# Altium integrated library Wurth_Elektronik_Passive_rev16a.IntLib: 1143 symbols (part 13 of 28)
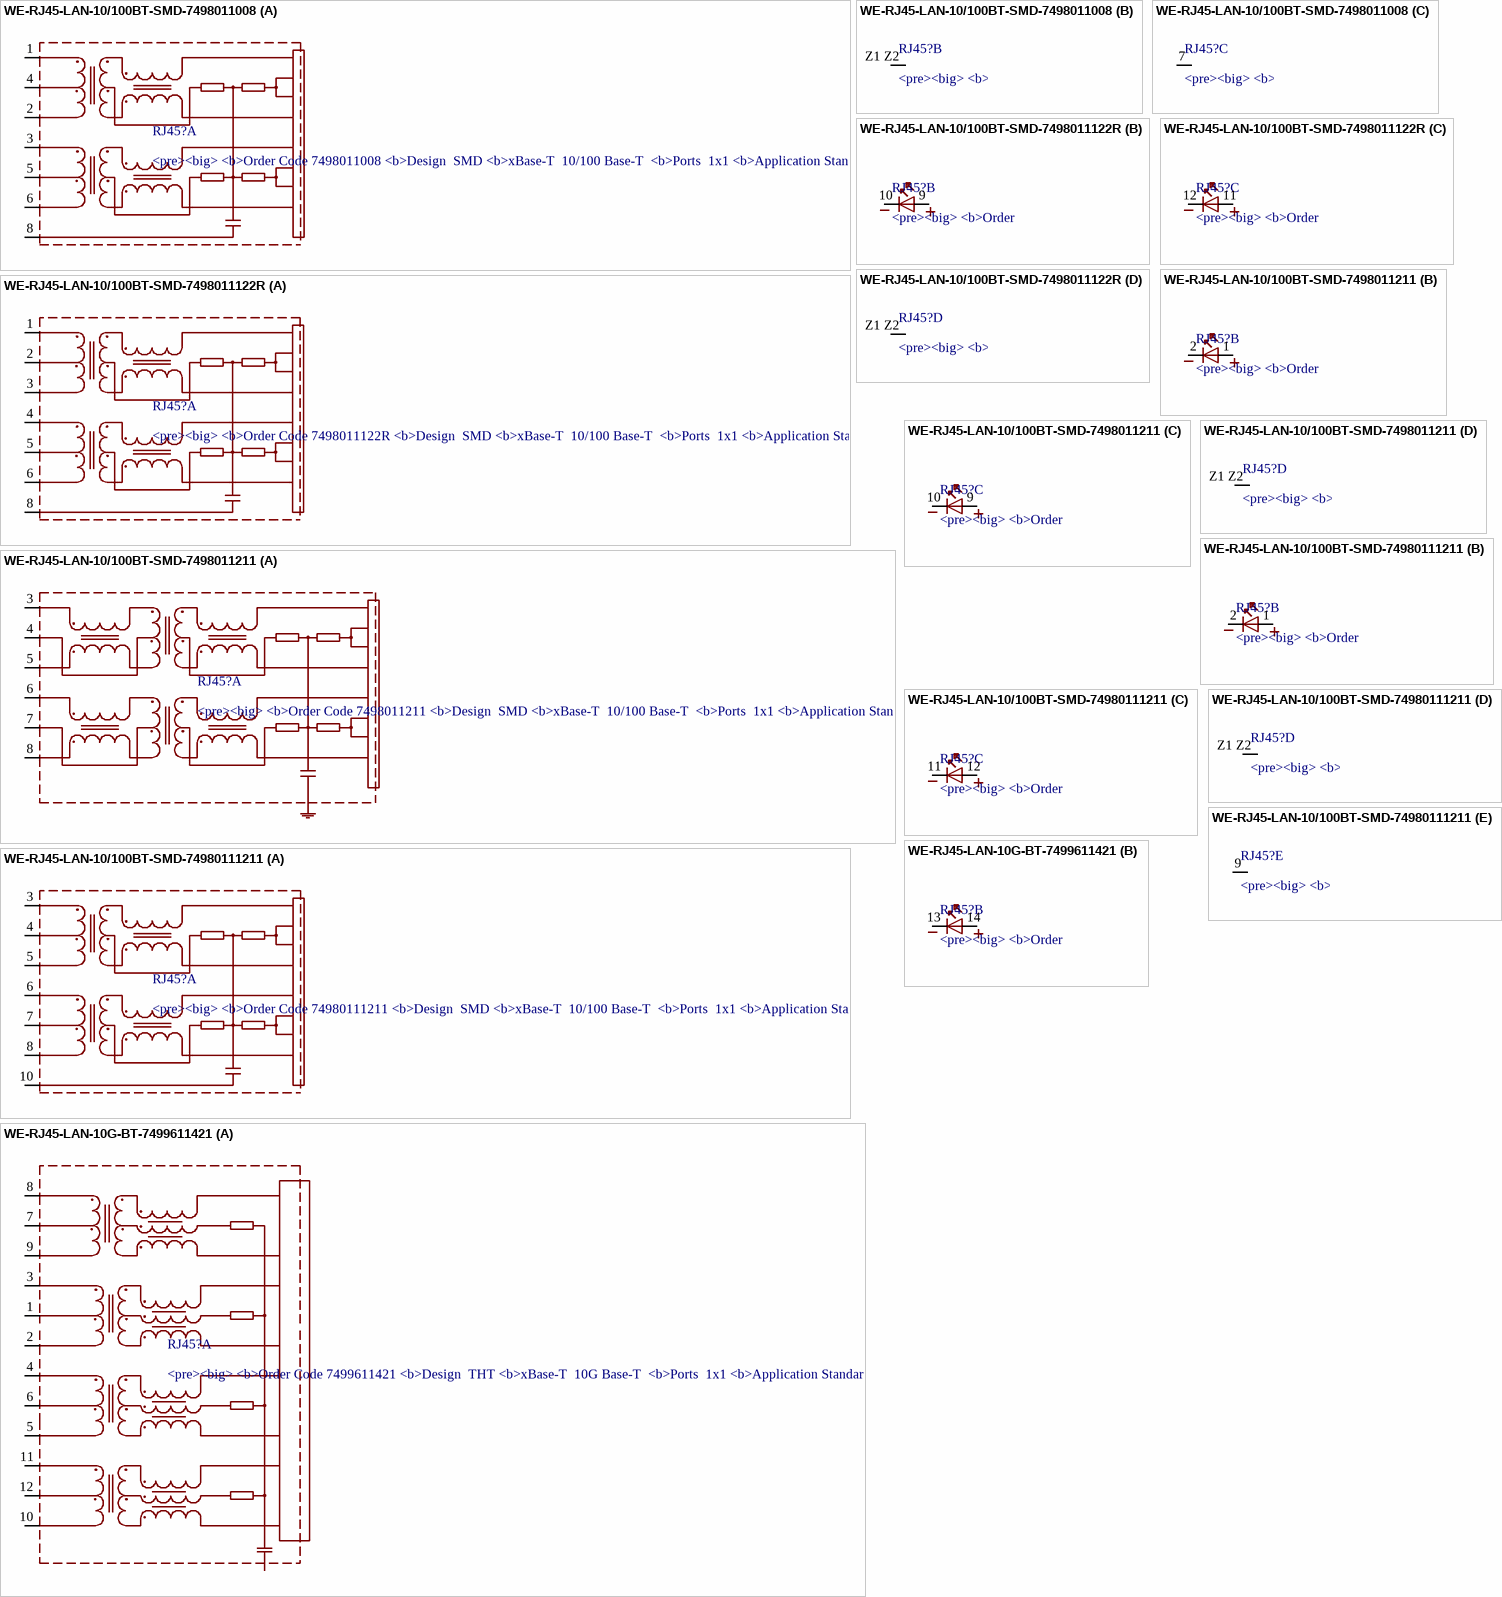
[diagram p70: symbols WE-RJ45-LAN-10/100BT-SMD-7498011008 to WE-RJ45-LAN-10G-BT-7499611421]

## WE-RJ45-LAN-10/100BT-SMD-7498011008
designator RJ45?, comment <pre><big> / <b>Order Code	7498011008 / <b>Design		SMD / <b>xBase-T		10/100 Base-T / <b>Ports		1x1 / <b>Application	Standard / <b>Tab Position	Down / <b>LED (Left-Right)	None / <b>EMI Fingers	Yes / </b><br><a href="<br><a href="http://katalog.we-online.de/media/images/eisos/UtLAN_RJ45_pf2.jpg" title="Enlarge picture"> / <img src="http://katalog.we-online.de/media/images/eisos/UtLAN_RJ45_pf2.jpg" width="320"></a><p> / Details see: <a href="http://katalog.we-online.de/en/pbs/WE-LAN_RJ45/7498011008?">http://katalog.we-online.de/en/pbs/WE-LAN_RJ45/7498011008?</a><p> / </b> / </b>Updated  by  Dan Xu 2014-07-10<br> / </b>2014 (C) Würth Elektronik
MANUFACTURER: Würth Elektronik eiSos GmbH; CREATED-BY: Christin Zierenner; COMPANY-URL: http://www.we-online.de; CREATED-DATE: AUG 2012; DATASHEET-URL: http://katalog.we-online.de/kataloge/eisos/media/pdf/7498011008.pdf
footprint 749801100X
part A pins: 1 RD+, 2 RD-, 3 TD+, 4 RCT, 5 TCT, 6 TD-, 8 SH (power)
part B pins: Z1 Z2 P$1 (power)
part C pins: 7 NC

## WE-RJ45-LAN-10/100BT-SMD-7498011122R
designator RJ45?, comment <pre><big> / <b>Order Code	7498011122R / <b>Design		SMD / <b>xBase-T		10/100 Base-T / <b>Ports		1x1 / <b>Application	Standard / <b>Tab Position	Up / <b>LED (Left-Right)	YELLOW-GREEN / <b>EMI Fingers	Yes / </b><br><a href="<br><a href="http://katalog.we-online.de/media/images/eisos/UtLAN_RJ45_pf2.jpg" title="Enlarge picture"> / <img src="http://katalog.we-online.de/media/images/eisos/UtLAN_RJ45_pf2.jpg" width="320"></a><p> / Details see: <a href="http://katalog.we-online.de/en/pbs/WE-LAN_RJ45/7498011122R?">http://katalog.we-online.de/en/pbs/WE-LAN_RJ45/7498011122R?</a><p> / </b> / </b>Updated  by  Dan Xu 2014-07-10<br> / </b>2014 (C) Würth Elektronik
MANUFACTURER: Würth Elektronik eiSos GmbH; CREATED-BY: Christin Zierenner; COMPANY-URL: http://www.we-online.de; CREATED-DATE: AUG 2012; DATASHEET-URL: http://katalog.we-online.de/kataloge/eisos/media/pdf/7498011122R.pdf
footprint 7498011122R
part A pins: 1 TD+, 2 TCT, 3 TD-, 4 RD+, 5 RCT, 6 RD-, 8 SH (power)
part B pins: 9 A, 10 K
part C pins: 11 A, 12 K
part D pins: Z1 Z2 P$1 (power)

## WE-RJ45-LAN-10/100BT-SMD-7498011211
designator RJ45?, comment <pre><big> / <b>Order Code	7498011211 / <b>Design		SMD / <b>xBase-T		10/100 Base-T / <b>Ports		1x1 / <b>Application	Standard / <b>Tab Position	DOWN / <b>LED (Left-Right)	GREEN-YELLOW / <b>EMI Fingers	Yes / </b><br><a href="<br><a href="http://katalog.we-online.de/media/images/eisos/UtLAN_RJ45_pf2.jpg" title="Enlarge picture"> / <img src="http://katalog.we-online.de/media/images/eisos/UtLAN_RJ45_pf2.jpg" width="320"></a><p> / Details see: <a href="http://katalog.we-online.de/en/pbs/WE-LAN_RJ45/7498011211?">http://katalog.we-online.de/en/pbs/WE-LAN_RJ45/7498011211?</a><p> / </b> / </b>Updated  by  Dan Xu 2014-07-10<br> / </b>2014 (C) Würth Elektronik
MANUFACTURER: Würth Elektronik eiSos GmbH; CREATED-BY: Christin Zierenner; COMPANY-URL: http://www.we-online.de; CREATED-DATE: AUG 2012; DATASHEET-URL: http://katalog.we-online.de/kataloge/eisos/media/pdf/7498011211.pdf
footprint 7498011211
part A pins: 3 TD+, 4 TCT, 5 TD-, 6 RD+, 7 RCT, 8 RD-
part B pins: 1 A, 2 K
part C pins: 9 A, 10 K
part D pins: Z1 Z2 P$1 (power)

## WE-RJ45-LAN-10/100BT-SMD-74980111211
designator RJ45?, comment <pre><big> / <b>Order Code	74980111211 / <b>Design		SMD / <b>xBase-T		10/100 Base-T / <b>Ports		1x1 / <b>Application	Standard / <b>Tab Position	Up / <b>LED (Left-Right)	YELLOW-GREEN / <b>EMI Fingers	Yes / </b><br><a href="<br><a href="http://katalog.we-online.de/media/images/eisos/UtLAN_RJ45_pf2.jpg" title="Enlarge picture"> / <img src="http://katalog.we-online.de/media/images/eisos/UtLAN_RJ45_pf2.jpg" width="320"></a><p> / Details see: <a href="http://katalog.we-online.de/en/pbs/WE-LAN_RJ45/74980111211?">http://katalog.we-online.de/en/pbs/WE-LAN_RJ45/74980111211?</a><p> / </b> / </b>Updated  by  Dan Xu 2014-07-10<br> / </b>2014 (C) Würth Elektronik
MANUFACTURER: Würth Elektronik eiSos GmbH; CREATED-BY: Christin Zierenner; COMPANY-URL: http://www.we-online.de; CREATED-DATE: AUG 2012; DATASHEET-URL: http://katalog.we-online.de/kataloge/eisos/media/pdf/74980111211.pdf
footprint 74980111211
part A pins: 3 RD+, 4 RCT, 5 RD-, 6 TD+, 7 TCT, 8 TD-, 10 SH (power)
part B pins: 1 A, 2 K
part C pins: 11 K, 12 A
part D pins: Z1 Z2 P$1 (power)
part E pins: 9 NC

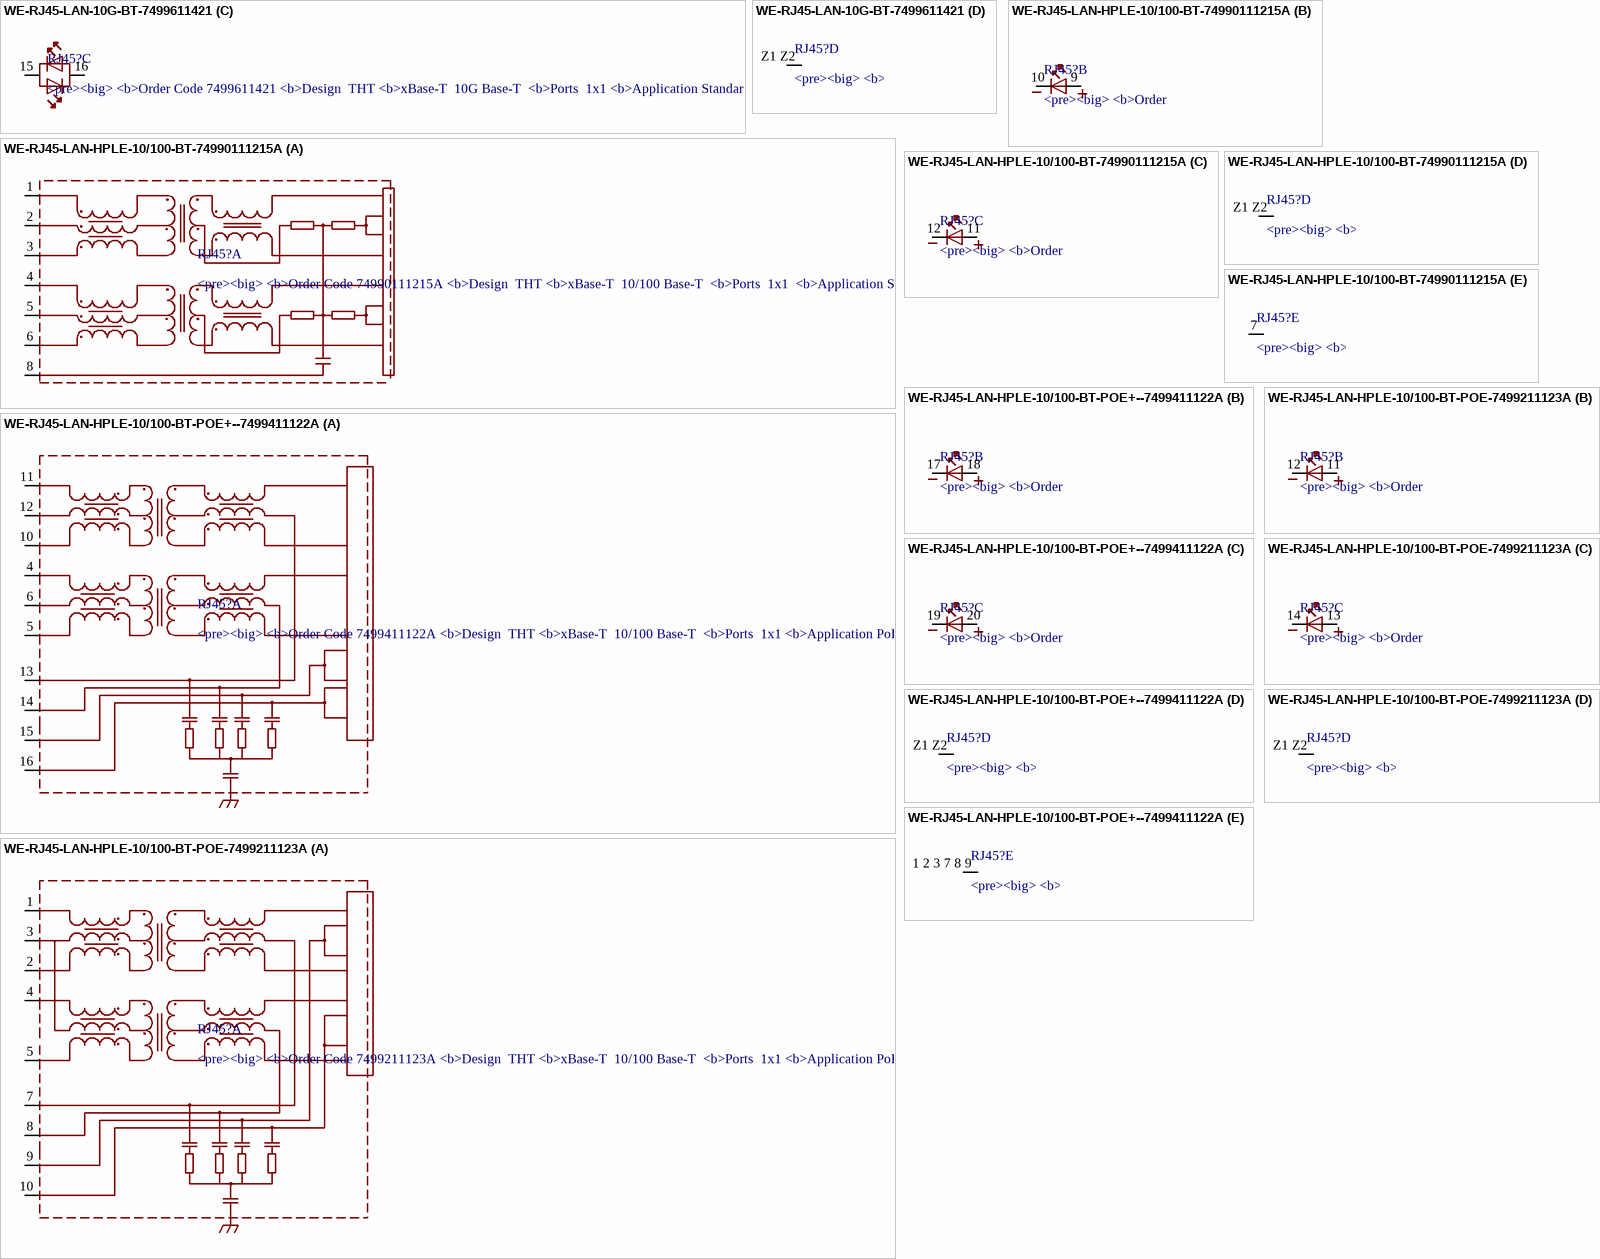
[diagram p40: symbols WE-RJ45-LAN-10G-BT-7499611421 to WE-RJ45-LAN-HPLE-10/100-BT-POE-7499211123A]

## WE-RJ45-LAN-10G-BT-7499611421
designator RJ45?, comment <pre><big> / <b>Order Code	7499611421 / <b>Design		THT / <b>xBase-T		10G Base-T / <b>Ports		1x1 / <b>Application	Standard / <b>Tab Position	UP / <b>LED (Left-Right)	GREEN/YELLOW-GREEN / <b>EMI Fingers	Yes / </b><br><a href="<br><a href="http://katalog.we-online.de/media/images/eisos/UtLAN_RJ45_pf2.jpg" title="Enlarge picture"> / <img src="http://katalog.we-online.de/media/images/eisos/UtLAN_RJ45_pf2.jpg" width="320"></a><p> / Details see: <a href="http://katalog.we-online.de/en/pbs/WE-LAN_RJ45/7499611421?">http://katalog.we-online.de/en/pbs/WE-LAN_RJ45/7499611421?</a><p> / </b> / </b>Updated  by  Dan Xu 2014-07-10<br> / </b>2014 (C) Würth Elektronik
MANUFACTURER: Würth Elektronik eiSos GmbH; CREATED-BY: Christin Zierenner; COMPANY-URL: http://www.we-online.de; CREATED-DATE: AUG 2012; DATASHEET-URL: http://katalog.we-online.de/kataloge/eisos/media/pdf/7499611421.pdf
footprint 7499611421
part A pins: 1, 2, 3, 4, 5, 6, 7, 8, 9, 10, 11, 12
part B pins: 13 K, 14 A
part C pins: 15 AK1, 16 AK2
part D pins: Z1 Z2 P$1 (power)

## WE-RJ45-LAN-HPLE-10/100-BT-74990111215A
designator RJ45?, comment <pre><big> / <b>Order Code	74990111215A / <b>Design		THT / <b>xBase-T		10/100 Base-T / <b>Ports		1x1 / <b>Application	Standard HPLE / <b>Tab Position	Down / <b>LED (Left-Right)	YELLOW-GREEN / <b>EMI Fingers	YES / </b><br><a href="<br><a href="http://katalog.we-online.de/media/images/eisos/UtLAN_RJ45_pf2.jpg" title="Enlarge picture"> / <img src="http://katalog.we-online.de/media/images/eisos/UtLAN_RJ45_pf2.jpg" width="320"></a><p> / Details see: <a href="http://katalog.we-online.de/en/pbs/WE-LAN_RJ45/74990111215A?">http://katalog.we-online.de/en/pbs/WE-LAN_RJ45/74990111215A?</a><p> / </b> / </b>Updated  by  Dan Xu 2014-07-10<br> / </b>2014 (C) Würth Elektronik
MANUFACTURER: Würth Elektronik eiSos GmbH; CREATED-BY: Christin Zierenner; COMPANY-URL: http://www.we-online.de; CREATED-DATE: AUG 2012; DATASHEET-URL: http://katalog.we-online.de/kataloge/eisos/media/pdf/74990111215A.pdf
footprint 74990111215A
part A pins: 1 TD+, 2 TCT, 3 TD-, 4 RD+, 5 RCT, 6 RD-, 8 SH (power)
part B pins: 9 A, 10 K
part C pins: 11 A, 12 K
part D pins: Z1 Z2 P$1 (power)
part E pins: 7 NC

## WE-RJ45-LAN-HPLE-10/100-BT-POE+--7499411122A
designator RJ45?, comment <pre><big> / <b>Order Code	7499411122A / <b>Design		THT / <b>xBase-T		10/100 Base-T / <b>Ports		1x1 / <b>Application	PoE+ HPLE / <b>Tab Position	Up / <b>LED (Left-Right)	YELLOW-GREEN / <b>EMI Fingers	YES / </b><br><a href="<br><a href="http://katalog.we-online.de/media/images/eisos/UtLAN_RJ45_pf2.jpg" title="Enlarge picture"> / <img src="http://katalog.we-online.de/media/images/eisos/UtLAN_RJ45_pf2.jpg" width="320"></a><p> / Details see: <a href="http://katalog.we-online.de/en/pbs/WE-LAN_RJ45/7499411122A?">http://katalog.we-online.de/en/pbs/WE-LAN_RJ45/7499411122A?</a><p> / </b> / </b>Updated  by  Dan Xu 2014-07-10<br> / </b>2014 (C) Würth Elektronik
MANUFACTURER: Würth Elektronik eiSos GmbH; CREATED-BY: Christin Zierenner; COMPANY-URL: http://www.we-online.de; CREATED-DATE: AUG 2012; DATASHEET-URL: http://katalog.we-online.de/kataloge/eisos/media/pdf/7499411122A.pdf
footprint 7499411122A
part A pins: 4, 5, 6, 10, 11, 12, 13 VC1+ (power), 14 VC1- (power), 15 VC2+ (power), 16 VC2- (power)
part B pins: 17 K, 18 A
part C pins: 19 K, 20 A
part D pins: Z1 Z2 P$1 (power)
part E pins: 1 2 3 7 8 9 NC

## WE-RJ45-LAN-HPLE-10/100-BT-POE-7499211123A
designator RJ45?, comment <pre><big> / <b>Order Code	7499211123A / <b>Design		THT / <b>xBase-T		10/100 Base-T / <b>Ports		1x1 / <b>Application	PoE HPLE / <b>Tab Position	Down / <b>LED (Left-Right)	YELLOW-GREEN / <b>EMI Fingers	YES / </b><br><a href="<br><a href="http://katalog.we-online.de/media/images/eisos/UtLAN_RJ45_pf2.jpg" title="Enlarge picture"> / <img src="http://katalog.we-online.de/media/images/eisos/UtLAN_RJ45_pf2.jpg" width="320"></a><p> / Details see: <a href="http://katalog.we-online.de/en/pbs/WE-LAN_RJ45/7499211123A?">http://katalog.we-online.de/en/pbs/WE-LAN_RJ45/7499211123A?</a><p> / </b> / </b>Updated  by  Dan Xu 2014-07-10<br> / </b>2014 (C) Würth Elektronik
MANUFACTURER: Würth Elektronik eiSos GmbH; CREATED-BY: Christin Zierenner; COMPANY-URL: http://www.we-online.de; CREATED-DATE: AUG 2012; DATASHEET-URL: http://katalog.we-online.de/pbs/datasheet/7499211123A.pdf
footprint 7499211123A
part A pins: 1, 2, 3, 4, 5, 7 VC1+ (power), 8 VC1- (power), 9 VC2+ (power), 10 VC2- (power)
part B pins: 11 A, 12 K
part C pins: 13 A, 14 K
part D pins: Z1 Z2 P$1 (power)

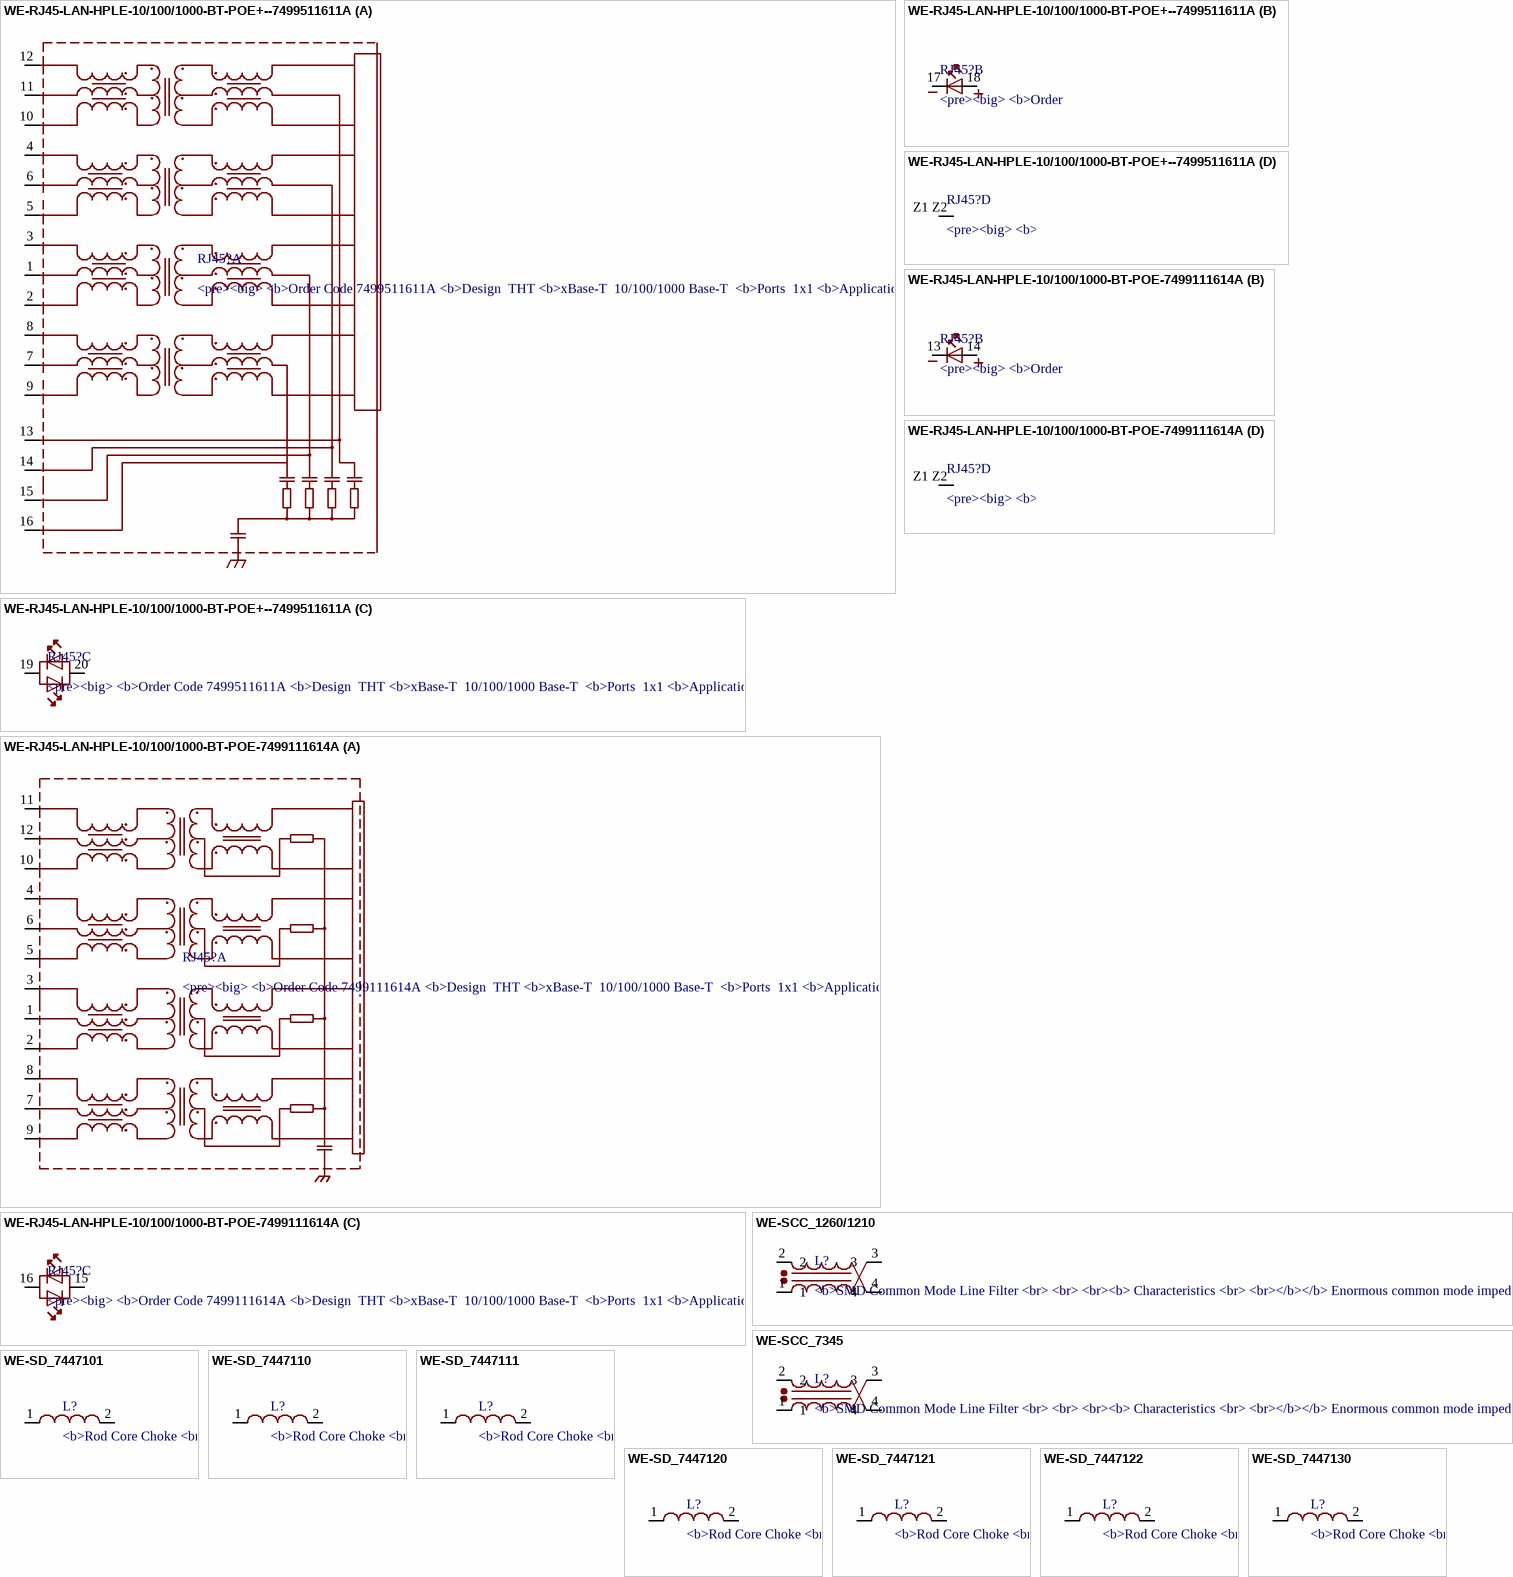
[diagram p41: symbols WE-RJ45-LAN-HPLE-10/100/1000-BT-POE+--7499511611A to WE-SD_7447130]

## WE-RJ45-LAN-HPLE-10/100/1000-BT-POE+--7499511611A
designator RJ45?, comment <pre><big> / <b>Order Code	7499511611A / <b>Design		THT / <b>xBase-T		10/100/1000 Base-T / <b>Ports		1x1 / <b>Application	PoE+ HPLE / <b>Tab Position	Up / <b>LED (Left-Right)	GREEN/ORANGE-YELLOW / <b>EMI Fingers	YES / </b><br><a href="<br><a href="http://katalog.we-online.de/media/images/eisos/UtLAN_RJ45_pf2.jpg" title="Enlarge picture"> / <img src="http://katalog.we-online.de/media/images/eisos/UtLAN_RJ45_pf2.jpg" width="320"></a><p> / Details see: <a href="http://katalog.we-online.de/en/pbs/WE-LAN_RJ45/7499511611A?">http://katalog.we-online.de/en/pbs/WE-LAN_RJ45/7499511611A?</a><p> / </b> / </b>Updated  by  Dan Xu 2014-07-10<br> / </b>2014 (C) Würth Elektronik
MANUFACTURER: Würth Elektronik eiSos GmbH; CREATED-BY: Christin Zierenner; COMPANY-URL: http://www.we-online.de; CREATED-DATE: AUG 2012; DATASHEET-URL: http://katalog.we-online.de/kataloge/eisos/media/pdf/7499511611A.pdf
footprint 7499511611A
part A pins: 1, 2, 3, 4, 5, 6, 7, 8, 9, 10, 11, 12, 13 VC1+ (power), 14 VC1- (power), 15 VC2+ (power), 16 VC2- (power)
part B pins: 17 K, 18 A
part C pins: 19 AK1, 20 AK2
part D pins: Z1 Z2 P$1 (power)

## WE-RJ45-LAN-HPLE-10/100/1000-BT-POE-7499111614A
designator RJ45?, comment <pre><big> / <b>Order Code	7499111614A / <b>Design		THT / <b>xBase-T		10/100/1000 Base-T / <b>Ports		1x1 / <b>Application	Standard HPLE / <b>Tab Position	Up / <b>LED (Left-Right)	GREEN/ORANGE-YELLOW / <b>EMI Fingers	YES / </b><br><a href="<br><a href="http://katalog.we-online.de/media/images/eisos/UtLAN_RJ45_pf2.jpg" title="Enlarge picture"> / <img src="http://katalog.we-online.de/media/images/eisos/UtLAN_RJ45_pf2.jpg" width="320"></a><p> / Details see: <a href="http://katalog.we-online.de/en/pbs/WE-LAN_RJ45/7499111614A?">http://katalog.we-online.de/en/pbs/WE-LAN_RJ45/7499111614A?</a><p> / </b> / </b>Updated  by  Dan Xu 2014-07-10<br> / </b>2014 (C) Würth Elektronik
MANUFACTURER: Würth Elektronik eiSos GmbH; CREATED-BY: Christin Zierenner; COMPANY-URL: http://www.we-online.de; CREATED-DATE: AUG 2012; DATASHEET-URL: http://katalog.we-online.de/kataloge/eisos/media/pdf/7499111614A.pdf
footprint 7499111614A
part A pins: 1, 2, 3, 4, 5, 6, 7, 8, 9, 10, 11 12, 12 11
part B pins: 13 K, 14 A
part C pins: 15 AK2, 16 AK1
part D pins: Z1 Z2 P$1 (power)

## WE-SCC_1260/1210
designator L?, comment <b>SMD Common Mode Line Filter / <br> / <br> / <br><b> Characteristics / <br> / <br></b></b> Enormous common mode impedance Z / <br> / <br> Small dimensions / <br> / <br> High current ratings / <br> / <br> / <br><b> Applications / <br> / <br></b> Attenuation of common mode noise / <br> / <br> Power supplies / <br> / <br> Data lines / <br> / <br> / <br> / </b><br><a href=<br><a href="http://katalog.we-online.de/media/images/eisos/IndSCC_pf2.jpg" title="Enlarge picture"> / <img src="http://katalog.we-online.de/media/thumbs2/eisos/thb_IndSCC_pf2.jpg" width="320"></a><p> / Details see: <a href="http://katalog.we-online.de/en/pbs/WE-SCC?">http://katalog.we-online.de/en/pbs/WE-SCC?</a><p> / </b> / </b>Updated  by  Dan Xu 2014-07-11<br> / </b>2014 (C) Wurth Elektronik
footprint WE-SCC_1260/1210
pins: 1, 2, 3, 4

## WE-SCC_7345
designator L?, comment <b>SMD Common Mode Line Filter / <br> / <br> / <br><b> Characteristics / <br> / <br></b></b> Enormous common mode impedance Z / <br> / <br> Small dimensions / <br> / <br> High current ratings / <br> / <br> / <br><b> Applications / <br> / <br></b> Attenuation of common mode noise / <br> / <br> Power supplies / <br> / <br> Data lines / <br> / <br> / <br> / </b><br><a href=<br><a href="http://katalog.we-online.de/media/images/eisos/IndSCC_pf2.jpg" title="Enlarge picture"> / <img src="http://katalog.we-online.de/media/thumbs2/eisos/thb_IndSCC_pf2.jpg" width="320"></a><p> / Details see: <a href="http://katalog.we-online.de/en/pbs/WE-SCC?">http://katalog.we-online.de/en/pbs/WE-SCC?</a><p> / </b> / </b>Updated  by  Dan Xu 2014-07-11<br> / </b>2014 (C) Wurth Elektronik
footprint WE-SCC_7345
pins: 1, 2, 3, 4

## WE-SD_7447101
designator L?, comment <b>Rod Core Choke / <br> / <br> / <br><b> Characteristics / <br> / <br></b></b> Rated current up to 15 A / <br> / <br> Inductance is independent from rated DC current / <br> / <br> High mechanical stability / <br> / <br> High saturation currents / <br> / <br> Operating temperature: –40 ºC to +150 ºC / <br> / <br> Custom designs on request / <br> / <br> / <br><b> Applications / <br> / <br></b> Switching regulators / <br> / <br> / <br> Motors / <br> / <br> Power amplifiers / <br> / <br> Power supplies / <br> / <br> Broadband filtering / <br> / <br> Typical in VHF / <br> / <br> / <br> / </b><br><a href=<br><a href="http://katalog.we-online.de/media/images/eisos/IndSD_pf2.jpg" title="Enlarge picture"> / <img src="http://katalog.we-online.de/media/images/eisos/IndSD_pf2.jpg" width="320"></a><p> / Details see: <a href="http://katalog.we-online.de/en/pbs/WE-SD?">http://katalog.we-online.de/en/pbs/WE-SD?</a><p> / </b> / </b>Updated  by  Dan Xu 2014-07-11<br> / </b>2014 (C) Wurth Elektronik
footprint WE-SD_7447101
pins: 1, 2

## WE-SD_7447110
designator L?, comment <b>Rod Core Choke / <br> / <br> / <br><b> Characteristics / <br> / <br></b></b> Rated current up to 15 A / <br> / <br> Inductance is independent from rated DC current / <br> / <br> High mechanical stability / <br> / <br> High saturation currents / <br> / <br> Operating temperature: –40 ºC to +150 ºC / <br> / <br> Custom designs on request / <br> / <br> / <br><b> Applications / <br> / <br></b> Switching regulators / <br> / <br> / <br> Motors / <br> / <br> Power amplifiers / <br> / <br> Power supplies / <br> / <br> Broadband filtering / <br> / <br> Typical in VHF / <br> / <br> / <br> / </b><br><a href=<br><a href="http://katalog.we-online.de/media/images/eisos/IndSD_pf2.jpg" title="Enlarge picture"> / <img src="http://katalog.we-online.de/media/images/eisos/IndSD_pf2.jpg" width="320"></a><p> / Details see: <a href="http://katalog.we-online.de/en/pbs/WE-SD?">http://katalog.we-online.de/en/pbs/WE-SD?</a><p> / </b> / </b>Updated  by  Dan Xu 2014-07-11<br> / </b>2014 (C) Wurth Elektronik
footprint WE-SD_7447110
pins: 1, 2

## WE-SD_7447111
designator L?, comment <b>Rod Core Choke / <br> / <br> / <br><b> Characteristics / <br> / <br></b></b> Rated current up to 15 A / <br> / <br> Inductance is independent from rated DC current / <br> / <br> High mechanical stability / <br> / <br> High saturation currents / <br> / <br> Operating temperature: –40 ºC to +150 ºC / <br> / <br> Custom designs on request / <br> / <br> / <br><b> Applications / <br> / <br></b> Switching regulators / <br> / <br> / <br> Motors / <br> / <br> Power amplifiers / <br> / <br> Power supplies / <br> / <br> Broadband filtering / <br> / <br> Typical in VHF / <br> / <br> / <br> / </b><br><a href=<br><a href="http://katalog.we-online.de/media/images/eisos/IndSD_pf2.jpg" title="Enlarge picture"> / <img src="http://katalog.we-online.de/media/images/eisos/IndSD_pf2.jpg" width="320"></a><p> / Details see: <a href="http://katalog.we-online.de/en/pbs/WE-SD?">http://katalog.we-online.de/en/pbs/WE-SD?</a><p> / </b> / </b>Updated  by  Dan Xu 2014-07-11<br> / </b>2014 (C) Wurth Elektronik
footprint WE-SD_7447111
pins: 1, 2

## WE-SD_7447120
designator L?, comment <b>Rod Core Choke / <br> / <br> / <br><b> Characteristics / <br> / <br></b></b> Rated current up to 15 A / <br> / <br> Inductance is independent from rated DC current / <br> / <br> High mechanical stability / <br> / <br> High saturation currents / <br> / <br> Operating temperature: –40 ºC to +150 ºC / <br> / <br> Custom designs on request / <br> / <br> / <br><b> Applications / <br> / <br></b> Switching regulators / <br> / <br> / <br> Motors / <br> / <br> Power amplifiers / <br> / <br> Power supplies / <br> / <br> Broadband filtering / <br> / <br> Typical in VHF / <br> / <br> / <br> / </b><br><a href=<br><a href="http://katalog.we-online.de/media/images/eisos/IndSD_pf2.jpg" title="Enlarge picture"> / <img src="http://katalog.we-online.de/media/images/eisos/IndSD_pf2.jpg" width="320"></a><p> / Details see: <a href="http://katalog.we-online.de/en/pbs/WE-SD?">http://katalog.we-online.de/en/pbs/WE-SD?</a><p> / </b> / </b>Updated  by  Dan Xu 2014-07-11<br> / </b>2014 (C) Wurth Elektronik
footprint WE-SD_7447120
pins: 1, 2

## WE-SD_7447121
designator L?, comment <b>Rod Core Choke / <br> / <br> / <br><b> Characteristics / <br> / <br></b></b> Rated current up to 15 A / <br> / <br> Inductance is independent from rated DC current / <br> / <br> High mechanical stability / <br> / <br> High saturation currents / <br> / <br> Operating temperature: –40 ºC to +150 ºC / <br> / <br> Custom designs on request / <br> / <br> / <br><b> Applications / <br> / <br></b> Switching regulators / <br> / <br> / <br> Motors / <br> / <br> Power amplifiers / <br> / <br> Power supplies / <br> / <br> Broadband filtering / <br> / <br> Typical in VHF / <br> / <br> / <br> / </b><br><a href=<br><a href="http://katalog.we-online.de/media/images/eisos/IndSD_pf2.jpg" title="Enlarge picture"> / <img src="http://katalog.we-online.de/media/images/eisos/IndSD_pf2.jpg" width="320"></a><p> / Details see: <a href="http://katalog.we-online.de/en/pbs/WE-SD?">http://katalog.we-online.de/en/pbs/WE-SD?</a><p> / </b> / </b>Updated  by  Dan Xu 2014-07-11<br> / </b>2014 (C) Wurth Elektronik
footprint WE-SD_7447121
pins: 1, 2

## WE-SD_7447122
designator L?, comment <b>Rod Core Choke / <br> / <br> / <br><b> Characteristics / <br> / <br></b></b> Rated current up to 15 A / <br> / <br> Inductance is independent from rated DC current / <br> / <br> High mechanical stability / <br> / <br> High saturation currents / <br> / <br> Operating temperature: –40 ºC to +150 ºC / <br> / <br> Custom designs on request / <br> / <br> / <br><b> Applications / <br> / <br></b> Switching regulators / <br> / <br> / <br> Motors / <br> / <br> Power amplifiers / <br> / <br> Power supplies / <br> / <br> Broadband filtering / <br> / <br> Typical in VHF / <br> / <br> / <br> / </b><br><a href=<br><a href="http://katalog.we-online.de/media/images/eisos/IndSD_pf2.jpg" title="Enlarge picture"> / <img src="http://katalog.we-online.de/media/images/eisos/IndSD_pf2.jpg" width="320"></a><p> / Details see: <a href="http://katalog.we-online.de/en/pbs/WE-SD?">http://katalog.we-online.de/en/pbs/WE-SD?</a><p> / </b> / </b>Updated  by  Dan Xu 2014-07-11<br> / </b>2014 (C) Wurth Elektronik
footprint WE-SD_7447122
pins: 1, 2

## WE-SD_7447130
designator L?, comment <b>Rod Core Choke / <br> / <br> / <br><b> Characteristics / <br> / <br></b></b> Rated current up to 15 A / <br> / <br> Inductance is independent from rated DC current / <br> / <br> High mechanical stability / <br> / <br> High saturation currents / <br> / <br> Operating temperature: –40 ºC to +150 ºC / <br> / <br> Custom designs on request / <br> / <br> / <br><b> Applications / <br> / <br></b> Switching regulators / <br> / <br> / <br> Motors / <br> / <br> Power amplifiers / <br> / <br> Power supplies / <br> / <br> Broadband filtering / <br> / <br> Typical in VHF / <br> / <br> / <br> / </b><br><a href=<br><a href="http://katalog.we-online.de/media/images/eisos/IndSD_pf2.jpg" title="Enlarge picture"> / <img src="http://katalog.we-online.de/media/images/eisos/IndSD_pf2.jpg" width="320"></a><p> / Details see: <a href="http://katalog.we-online.de/en/pbs/WE-SD?">http://katalog.we-online.de/en/pbs/WE-SD?</a><p> / </b> / </b>Updated  by  Dan Xu 2014-07-11<br> / </b>2014 (C) Wurth Elektronik
footprint WE-SD_7447130
pins: 1, 2

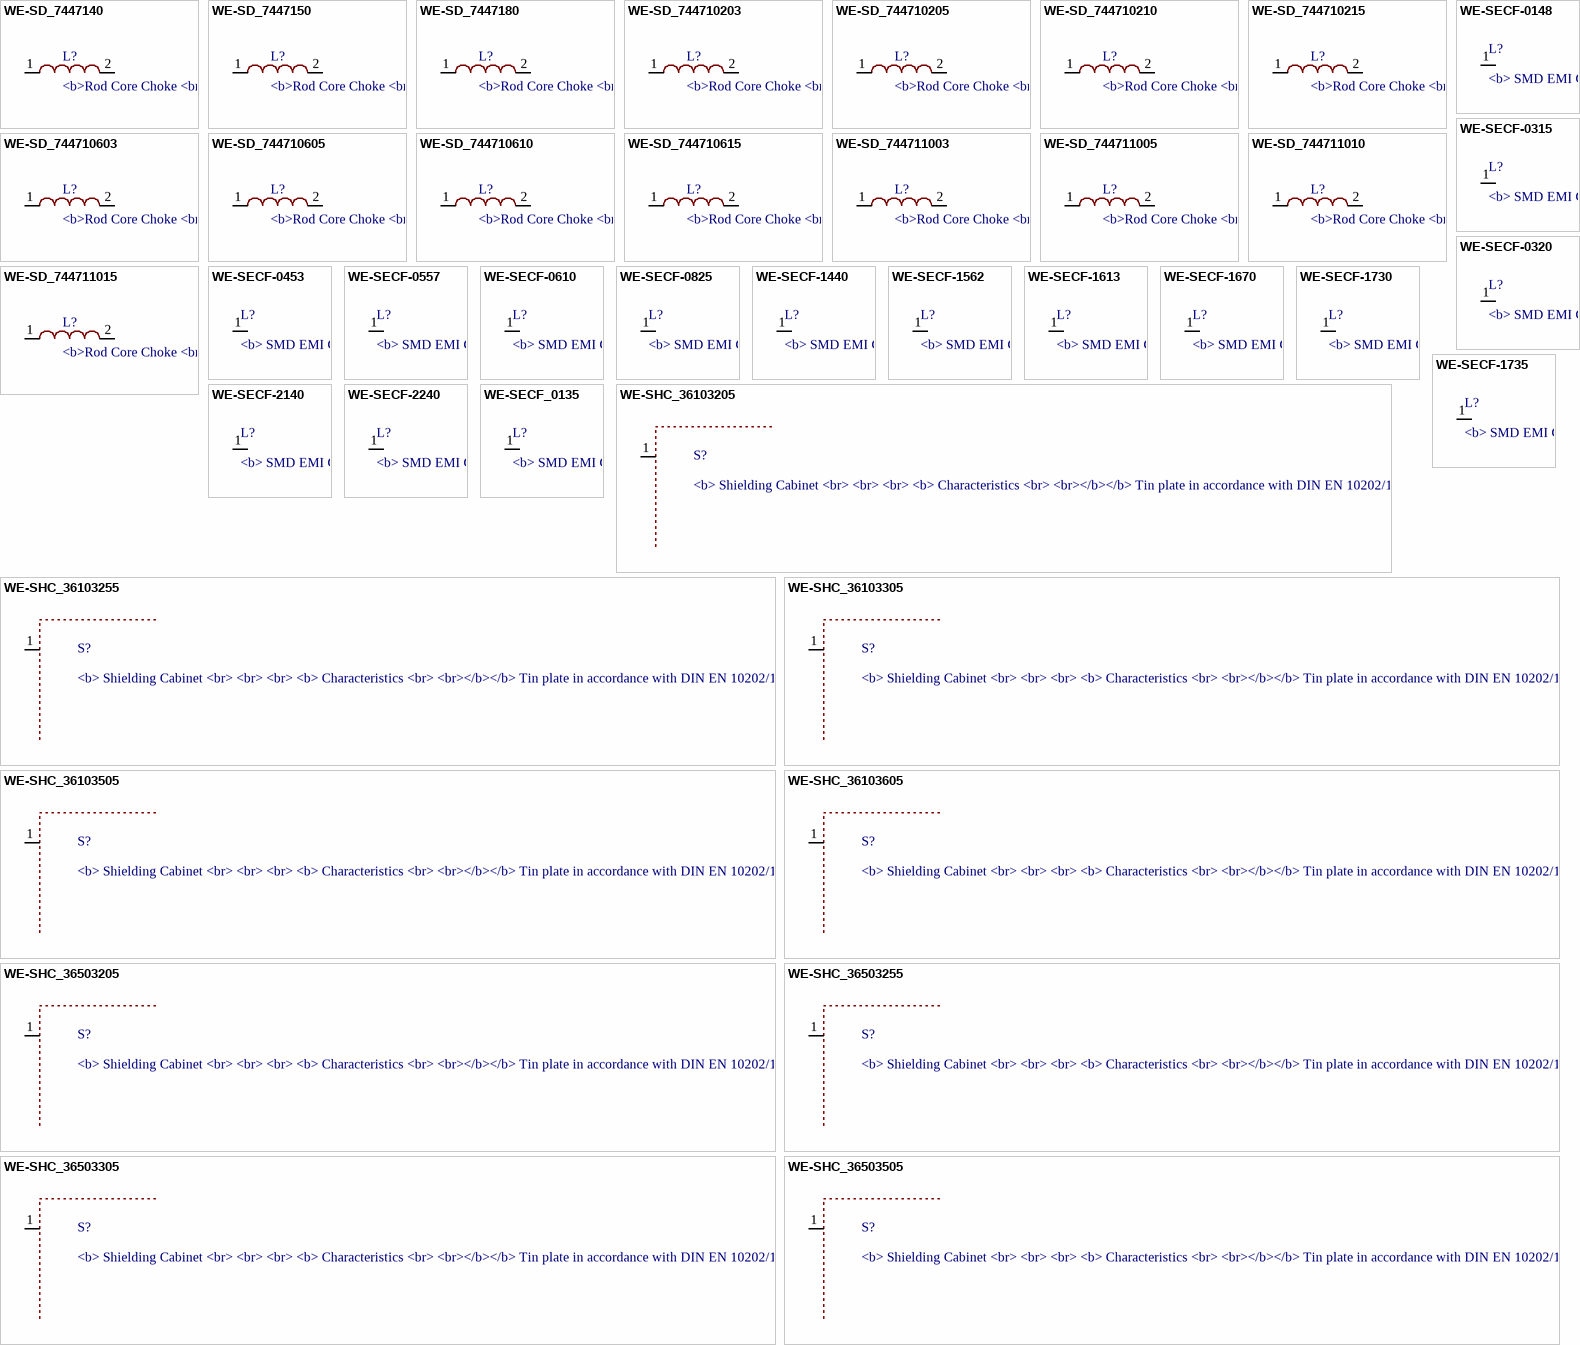
[diagram p42: symbols WE-SD_7447140 to WE-SHC_36503505]

## WE-SD_7447140
designator L?, comment <b>Rod Core Choke / <br> / <br> / <br><b> Characteristics / <br> / <br></b></b> Rated current up to 15 A / <br> / <br> Inductance is independent from rated DC current / <br> / <br> High mechanical stability / <br> / <br> High saturation currents / <br> / <br> Operating temperature: –40 ºC to +150 ºC / <br> / <br> Custom designs on request / <br> / <br> / <br><b> Applications / <br> / <br></b> Switching regulators / <br> / <br> / <br> Motors / <br> / <br> Power amplifiers / <br> / <br> Power supplies / <br> / <br> Broadband filtering / <br> / <br> Typical in VHF / <br> / <br> / <br> / </b><br><a href=<br><a href="http://katalog.we-online.de/media/images/eisos/IndSD_pf2.jpg" title="Enlarge picture"> / <img src="http://katalog.we-online.de/media/images/eisos/IndSD_pf2.jpg" width="320"></a><p> / Details see: <a href="http://katalog.we-online.de/en/pbs/WE-SD?">http://katalog.we-online.de/en/pbs/WE-SD?</a><p> / </b> / </b>Updated  by  Dan Xu 2014-07-11<br> / </b>2014 (C) Wurth Elektronik
footprint WE-SD_7447140
pins: 1, 2

## WE-SD_7447150
designator L?, comment <b>Rod Core Choke / <br> / <br> / <br><b> Characteristics / <br> / <br></b></b> Rated current up to 15 A / <br> / <br> Inductance is independent from rated DC current / <br> / <br> High mechanical stability / <br> / <br> High saturation currents / <br> / <br> Operating temperature: –40 ºC to +150 ºC / <br> / <br> Custom designs on request / <br> / <br> / <br><b> Applications / <br> / <br></b> Switching regulators / <br> / <br> / <br> Motors / <br> / <br> Power amplifiers / <br> / <br> Power supplies / <br> / <br> Broadband filtering / <br> / <br> Typical in VHF / <br> / <br> / <br> / </b><br><a href=<br><a href="http://katalog.we-online.de/media/images/eisos/IndSD_pf2.jpg" title="Enlarge picture"> / <img src="http://katalog.we-online.de/media/images/eisos/IndSD_pf2.jpg" width="320"></a><p> / Details see: <a href="http://katalog.we-online.de/en/pbs/WE-SD?">http://katalog.we-online.de/en/pbs/WE-SD?</a><p> / </b> / </b>Updated  by  Dan Xu 2014-07-11<br> / </b>2014 (C) Wurth Elektronik
footprint WE-SD_7447150
pins: 1, 2

## WE-SD_7447180
designator L?, comment <b>Rod Core Choke / <br> / <br> / <br><b> Characteristics / <br> / <br></b></b> Rated current up to 15 A / <br> / <br> Inductance is independent from rated DC current / <br> / <br> High mechanical stability / <br> / <br> High saturation currents / <br> / <br> Operating temperature: –40 ºC to +150 ºC / <br> / <br> Custom designs on request / <br> / <br> / <br><b> Applications / <br> / <br></b> Switching regulators / <br> / <br> / <br> Motors / <br> / <br> Power amplifiers / <br> / <br> Power supplies / <br> / <br> Broadband filtering / <br> / <br> Typical in VHF / <br> / <br> / <br> / </b><br><a href=<br><a href="http://katalog.we-online.de/media/images/eisos/IndSD_pf2.jpg" title="Enlarge picture"> / <img src="http://katalog.we-online.de/media/images/eisos/IndSD_pf2.jpg" width="320"></a><p> / Details see: <a href="http://katalog.we-online.de/en/pbs/WE-SD?">http://katalog.we-online.de/en/pbs/WE-SD?</a><p> / </b> / </b>Updated  by  Dan Xu 2014-07-11<br> / </b>2014 (C) Wurth Elektronik
footprint WE-SD_7447180
pins: 1, 2

## WE-SD_744710203
designator L?, comment <b>Rod Core Choke / <br> / <br> / <br><b> Characteristics / <br> / <br></b></b> Rated current up to 15 A / <br> / <br> Inductance is independent from rated DC current / <br> / <br> High mechanical stability / <br> / <br> High saturation currents / <br> / <br> Operating temperature: –40 ºC to +150 ºC / <br> / <br> Custom designs on request / <br> / <br> / <br><b> Applications / <br> / <br></b> Switching regulators / <br> / <br> / <br> Motors / <br> / <br> Power amplifiers / <br> / <br> Power supplies / <br> / <br> Broadband filtering / <br> / <br> Typical in VHF / <br> / <br> / <br> / </b><br><a href=<br><a href="http://katalog.we-online.de/media/images/eisos/IndSD_pf2.jpg" title="Enlarge picture"> / <img src="http://katalog.we-online.de/media/images/eisos/IndSD_pf2.jpg" width="320"></a><p> / Details see: <a href="http://katalog.we-online.de/en/pbs/WE-SD?">http://katalog.we-online.de/en/pbs/WE-SD?</a><p> / </b> / </b>Updated  by  Dan Xu 2014-07-11<br> / </b>2014 (C) Wurth Elektronik
footprint WE-SD_744710203
pins: 1, 2

## WE-SD_744710205
designator L?, comment <b>Rod Core Choke / <br> / <br> / <br><b> Characteristics / <br> / <br></b></b> Rated current up to 15 A / <br> / <br> Inductance is independent from rated DC current / <br> / <br> High mechanical stability / <br> / <br> High saturation currents / <br> / <br> Operating temperature: –40 ºC to +150 ºC / <br> / <br> Custom designs on request / <br> / <br> / <br><b> Applications / <br> / <br></b> Switching regulators / <br> / <br> / <br> Motors / <br> / <br> Power amplifiers / <br> / <br> Power supplies / <br> / <br> Broadband filtering / <br> / <br> Typical in VHF / <br> / <br> / <br> / </b><br><a href=<br><a href="http://katalog.we-online.de/media/images/eisos/IndSD_pf2.jpg" title="Enlarge picture"> / <img src="http://katalog.we-online.de/media/images/eisos/IndSD_pf2.jpg" width="320"></a><p> / Details see: <a href="http://katalog.we-online.de/en/pbs/WE-SD?">http://katalog.we-online.de/en/pbs/WE-SD?</a><p> / </b> / </b>Updated  by  Dan Xu 2014-07-11<br> / </b>2014 (C) Wurth Elektronik
footprint WE-SD_744710205
pins: 1, 2

## WE-SD_744710210
designator L?, comment <b>Rod Core Choke / <br> / <br> / <br><b> Characteristics / <br> / <br></b></b> Rated current up to 15 A / <br> / <br> Inductance is independent from rated DC current / <br> / <br> High mechanical stability / <br> / <br> High saturation currents / <br> / <br> Operating temperature: –40 ºC to +150 ºC / <br> / <br> Custom designs on request / <br> / <br> / <br><b> Applications / <br> / <br></b> Switching regulators / <br> / <br> / <br> Motors / <br> / <br> Power amplifiers / <br> / <br> Power supplies / <br> / <br> Broadband filtering / <br> / <br> Typical in VHF / <br> / <br> / <br> / </b><br><a href=<br><a href="http://katalog.we-online.de/media/images/eisos/IndSD_pf2.jpg" title="Enlarge picture"> / <img src="http://katalog.we-online.de/media/images/eisos/IndSD_pf2.jpg" width="320"></a><p> / Details see: <a href="http://katalog.we-online.de/en/pbs/WE-SD?">http://katalog.we-online.de/en/pbs/WE-SD?</a><p> / </b> / </b>Updated  by  Dan Xu 2014-07-11<br> / </b>2014 (C) Wurth Elektronik
footprint WE-SD_744710210
pins: 1, 2

## WE-SD_744710215
designator L?, comment <b>Rod Core Choke / <br> / <br> / <br><b> Characteristics / <br> / <br></b></b> Rated current up to 15 A / <br> / <br> Inductance is independent from rated DC current / <br> / <br> High mechanical stability / <br> / <br> High saturation currents / <br> / <br> Operating temperature: –40 ºC to +150 ºC / <br> / <br> Custom designs on request / <br> / <br> / <br><b> Applications / <br> / <br></b> Switching regulators / <br> / <br> / <br> Motors / <br> / <br> Power amplifiers / <br> / <br> Power supplies / <br> / <br> Broadband filtering / <br> / <br> Typical in VHF / <br> / <br> / <br> / </b><br><a href=<br><a href="http://katalog.we-online.de/media/images/eisos/IndSD_pf2.jpg" title="Enlarge picture"> / <img src="http://katalog.we-online.de/media/images/eisos/IndSD_pf2.jpg" width="320"></a><p> / Details see: <a href="http://katalog.we-online.de/en/pbs/WE-SD?">http://katalog.we-online.de/en/pbs/WE-SD?</a><p> / </b> / </b>Updated  by  Dan Xu 2014-07-11<br> / </b>2014 (C) Wurth Elektronik
footprint WE-SD_744710215
pins: 1, 2

## WE-SD_744710603
designator L?, comment <b>Rod Core Choke / <br> / <br> / <br><b> Characteristics / <br> / <br></b></b> Rated current up to 15 A / <br> / <br> Inductance is independent from rated DC current / <br> / <br> High mechanical stability / <br> / <br> High saturation currents / <br> / <br> Operating temperature: –40 ºC to +150 ºC / <br> / <br> Custom designs on request / <br> / <br> / <br><b> Applications / <br> / <br></b> Switching regulators / <br> / <br> / <br> Motors / <br> / <br> Power amplifiers / <br> / <br> Power supplies / <br> / <br> Broadband filtering / <br> / <br> Typical in VHF / <br> / <br> / <br> / </b><br><a href=<br><a href="http://katalog.we-online.de/media/images/eisos/IndSD_pf2.jpg" title="Enlarge picture"> / <img src="http://katalog.we-online.de/media/images/eisos/IndSD_pf2.jpg" width="320"></a><p> / Details see: <a href="http://katalog.we-online.de/en/pbs/WE-SD?">http://katalog.we-online.de/en/pbs/WE-SD?</a><p> / </b> / </b>Updated  by  Dan Xu 2014-07-11<br> / </b>2014 (C) Wurth Elektronik
footprint WE-SD_744710603
pins: 1, 2

## WE-SD_744710605
designator L?, comment <b>Rod Core Choke / <br> / <br> / <br><b> Characteristics / <br> / <br></b></b> Rated current up to 15 A / <br> / <br> Inductance is independent from rated DC current / <br> / <br> High mechanical stability / <br> / <br> High saturation currents / <br> / <br> Operating temperature: –40 ºC to +150 ºC / <br> / <br> Custom designs on request / <br> / <br> / <br><b> Applications / <br> / <br></b> Switching regulators / <br> / <br> / <br> Motors / <br> / <br> Power amplifiers / <br> / <br> Power supplies / <br> / <br> Broadband filtering / <br> / <br> Typical in VHF / <br> / <br> / <br> / </b><br><a href=<br><a href="http://katalog.we-online.de/media/images/eisos/IndSD_pf2.jpg" title="Enlarge picture"> / <img src="http://katalog.we-online.de/media/images/eisos/IndSD_pf2.jpg" width="320"></a><p> / Details see: <a href="http://katalog.we-online.de/en/pbs/WE-SD?">http://katalog.we-online.de/en/pbs/WE-SD?</a><p> / </b> / </b>Updated  by  Dan Xu 2014-07-11<br> / </b>2014 (C) Wurth Elektronik
footprint WE-SD_744710605
pins: 1, 2

## WE-SD_744710610
designator L?, comment <b>Rod Core Choke / <br> / <br> / <br><b> Characteristics / <br> / <br></b></b> Rated current up to 15 A / <br> / <br> Inductance is independent from rated DC current / <br> / <br> High mechanical stability / <br> / <br> High saturation currents / <br> / <br> Operating temperature: –40 ºC to +150 ºC / <br> / <br> Custom designs on request / <br> / <br> / <br><b> Applications / <br> / <br></b> Switching regulators / <br> / <br> / <br> Motors / <br> / <br> Power amplifiers / <br> / <br> Power supplies / <br> / <br> Broadband filtering / <br> / <br> Typical in VHF / <br> / <br> / <br> / </b><br><a href=<br><a href="http://katalog.we-online.de/media/images/eisos/IndSD_pf2.jpg" title="Enlarge picture"> / <img src="http://katalog.we-online.de/media/images/eisos/IndSD_pf2.jpg" width="320"></a><p> / Details see: <a href="http://katalog.we-online.de/en/pbs/WE-SD?">http://katalog.we-online.de/en/pbs/WE-SD?</a><p> / </b> / </b>Updated  by  Dan Xu 2014-07-11<br> / </b>2014 (C) Wurth Elektronik
footprint WE-SD_744710610
pins: 1, 2

## WE-SD_744710615
designator L?, comment <b>Rod Core Choke / <br> / <br> / <br><b> Characteristics / <br> / <br></b></b> Rated current up to 15 A / <br> / <br> Inductance is independent from rated DC current / <br> / <br> High mechanical stability / <br> / <br> High saturation currents / <br> / <br> Operating temperature: –40 ºC to +150 ºC / <br> / <br> Custom designs on request / <br> / <br> / <br><b> Applications / <br> / <br></b> Switching regulators / <br> / <br> / <br> Motors / <br> / <br> Power amplifiers / <br> / <br> Power supplies / <br> / <br> Broadband filtering / <br> / <br> Typical in VHF / <br> / <br> / <br> / </b><br><a href=<br><a href="http://katalog.we-online.de/media/images/eisos/IndSD_pf2.jpg" title="Enlarge picture"> / <img src="http://katalog.we-online.de/media/images/eisos/IndSD_pf2.jpg" width="320"></a><p> / Details see: <a href="http://katalog.we-online.de/en/pbs/WE-SD?">http://katalog.we-online.de/en/pbs/WE-SD?</a><p> / </b> / </b>Updated  by  Dan Xu 2014-07-11<br> / </b>2014 (C) Wurth Elektronik
footprint WE-SD_744710615
pins: 1, 2

## WE-SD_744711003
designator L?, comment <b>Rod Core Choke / <br> / <br> / <br><b> Characteristics / <br> / <br></b></b> Rated current up to 15 A / <br> / <br> Inductance is independent from rated DC current / <br> / <br> High mechanical stability / <br> / <br> High saturation currents / <br> / <br> Operating temperature: –40 ºC to +150 ºC / <br> / <br> Custom designs on request / <br> / <br> / <br><b> Applications / <br> / <br></b> Switching regulators / <br> / <br> / <br> Motors / <br> / <br> Power amplifiers / <br> / <br> Power supplies / <br> / <br> Broadband filtering / <br> / <br> Typical in VHF / <br> / <br> / <br> / </b><br><a href=<br><a href="http://katalog.we-online.de/media/images/eisos/IndSD_pf2.jpg" title="Enlarge picture"> / <img src="http://katalog.we-online.de/media/images/eisos/IndSD_pf2.jpg" width="320"></a><p> / Details see: <a href="http://katalog.we-online.de/en/pbs/WE-SD?">http://katalog.we-online.de/en/pbs/WE-SD?</a><p> / </b> / </b>Updated  by  Dan Xu 2014-07-11<br> / </b>2014 (C) Wurth Elektronik
footprint WE-SD_744711003
pins: 1, 2

## WE-SD_744711005
designator L?, comment <b>Rod Core Choke / <br> / <br> / <br><b> Characteristics / <br> / <br></b></b> Rated current up to 15 A / <br> / <br> Inductance is independent from rated DC current / <br> / <br> High mechanical stability / <br> / <br> High saturation currents / <br> / <br> Operating temperature: –40 ºC to +150 ºC / <br> / <br> Custom designs on request / <br> / <br> / <br><b> Applications / <br> / <br></b> Switching regulators / <br> / <br> / <br> Motors / <br> / <br> Power amplifiers / <br> / <br> Power supplies / <br> / <br> Broadband filtering / <br> / <br> Typical in VHF / <br> / <br> / <br> / </b><br><a href=<br><a href="http://katalog.we-online.de/media/images/eisos/IndSD_pf2.jpg" title="Enlarge picture"> / <img src="http://katalog.we-online.de/media/images/eisos/IndSD_pf2.jpg" width="320"></a><p> / Details see: <a href="http://katalog.we-online.de/en/pbs/WE-SD?">http://katalog.we-online.de/en/pbs/WE-SD?</a><p> / </b> / </b>Updated  by  Dan Xu 2014-07-11<br> / </b>2014 (C) Wurth Elektronik
footprint WE-SD_744711005
pins: 1, 2

## WE-SD_744711010
designator L?, comment <b>Rod Core Choke / <br> / <br> / <br><b> Characteristics / <br> / <br></b></b> Rated current up to 15 A / <br> / <br> Inductance is independent from rated DC current / <br> / <br> High mechanical stability / <br> / <br> High saturation currents / <br> / <br> Operating temperature: –40 ºC to +150 ºC / <br> / <br> Custom designs on request / <br> / <br> / <br><b> Applications / <br> / <br></b> Switching regulators / <br> / <br> / <br> Motors / <br> / <br> Power amplifiers / <br> / <br> Power supplies / <br> / <br> Broadband filtering / <br> / <br> Typical in VHF / <br> / <br> / <br> / </b><br><a href=<br><a href="http://katalog.we-online.de/media/images/eisos/IndSD_pf2.jpg" title="Enlarge picture"> / <img src="http://katalog.we-online.de/media/images/eisos/IndSD_pf2.jpg" width="320"></a><p> / Details see: <a href="http://katalog.we-online.de/en/pbs/WE-SD?">http://katalog.we-online.de/en/pbs/WE-SD?</a><p> / </b> / </b>Updated  by  Dan Xu 2014-07-11<br> / </b>2014 (C) Wurth Elektronik
footprint WE-SD_744711010
pins: 1, 2

## WE-SD_744711015
designator L?, comment <b>Rod Core Choke / <br> / <br> / <br><b> Characteristics / <br> / <br></b></b> Rated current up to 15 A / <br> / <br> Inductance is independent from rated DC current / <br> / <br> High mechanical stability / <br> / <br> High saturation currents / <br> / <br> Operating temperature: –40 ºC to +150 ºC / <br> / <br> Custom designs on request / <br> / <br> / <br><b> Applications / <br> / <br></b> Switching regulators / <br> / <br> / <br> Motors / <br> / <br> Power amplifiers / <br> / <br> Power supplies / <br> / <br> Broadband filtering / <br> / <br> Typical in VHF / <br> / <br> / <br> / </b><br><a href=<br><a href="http://katalog.we-online.de/media/images/eisos/IndSD_pf2.jpg" title="Enlarge picture"> / <img src="http://katalog.we-online.de/media/images/eisos/IndSD_pf2.jpg" width="320"></a><p> / Details see: <a href="http://katalog.we-online.de/en/pbs/WE-SD?">http://katalog.we-online.de/en/pbs/WE-SD?</a><p> / </b> / </b>Updated  by  Dan Xu 2014-07-11<br> / </b>2014 (C) Wurth Elektronik
footprint WE-SD_744711015
pins: 1, 2

## WE-SECF-0148
designator L?, comment <b> SMD EMI Contact Finger / <br> / <br> / <br><b> Characteristics / <br> / <br></b></b> Material: Copper Beryllium (CuBe) gold-plated (AU) / <br> / <br> Corrosion resistant / <br> / <br> Wear resistant / <br> / <br> High temperatures and mechanical weight have no influence on the excellent connection properties / <br> / <br> Reliable solderability / <br> / <br> Tape & reel packaging / <br> / <br> Perfectly suited for automated placement / <br> / <br> Different types and sizes available / <br> / <br> / <br><b> Applications / <br> / <br></b> Contact between PCB's ground and housing / <br> / <br> Low impedance RF connection between PCBs and/or PCB and metal case / <br> / <br> / </b><br><a href="<br><a href="http://katalog.we-online.de/media/images/eisos/AbsSESF_pf2.jpg" title="Enlarge picture"> / <img src="http://katalog.we-online.de/media/images/eisos/AbsSESF_pf2.jpg" width="320"></a><p> / Details see: <a href="http://katalog.we-online.de/en/pbs/WE-SECF?">http://katalog.we-online.de/en/pbs/WE-SECF?</a><p> / </b> / </b>Updated  by  Dan Xu 2014-07-15<br> / </b>2014 (C) Wurth Elektronik
MANUFACTURER: Würth Elektronik eiSos GmbH; CREATED-BY: Christin Otto; COMPANY-URL: http://www.we-online.de; CREATED-DATE: MAR 2013; DATASHEET-URL: http://katalog.we-online.de/pbs/datasheet/331011452048.pdf
footprint WE-SECF_0148
pins: 1 P$1 (power)

## WE-SECF-0315
designator L?, comment <b> SMD EMI Contact Finger / <br> / <br> / <br><b> Characteristics / <br> / <br></b></b> Material: Copper Beryllium (CuBe) gold-plated (AU) / <br> / <br> Corrosion resistant / <br> / <br> Wear resistant / <br> / <br> High temperatures and mechanical weight have no influence on the excellent connection properties / <br> / <br> Reliable solderability / <br> / <br> Tape & reel packaging / <br> / <br> Perfectly suited for automated placement / <br> / <br> Different types and sizes available / <br> / <br> / <br><b> Applications / <br> / <br></b> Contact between PCB's ground and housing / <br> / <br> Low impedance RF connection between PCBs and/or PCB and metal case / <br> / <br> / </b><br><a href="<br><a href="http://katalog.we-online.de/media/images/eisos/AbsSESF_pf2.jpg" title="Enlarge picture"> / <img src="http://katalog.we-online.de/media/images/eisos/AbsSESF_pf2.jpg" width="320"></a><p> / Details see: <a href="http://katalog.we-online.de/en/pbs/WE-SECF?">http://katalog.we-online.de/en/pbs/WE-SECF?</a><p> / </b> / </b>Updated  by  Dan Xu 2014-07-15<br> / </b>2014 (C) Wurth Elektronik
MANUFACTURER: Würth Elektronik eiSos GmbH; CREATED-BY: Christin Otto; COMPANY-URL: http://www.we-online.de; CREATED-DATE: MAR 2013; DATASHEET-URL: http://katalog.we-online.de/pbs/datasheet/331031321515.pdf
footprint WE-SECF_0315
pins: 1 P$1 (power)

## WE-SECF-0320
designator L?, comment <b> SMD EMI Contact Finger / <br> / <br> / <br><b> Characteristics / <br> / <br></b></b> Material: Copper Beryllium (CuBe) gold-plated (AU) / <br> / <br> Corrosion resistant / <br> / <br> Wear resistant / <br> / <br> High temperatures and mechanical weight have no influence on the excellent connection properties / <br> / <br> Reliable solderability / <br> / <br> Tape & reel packaging / <br> / <br> Perfectly suited for automated placement / <br> / <br> Different types and sizes available / <br> / <br> / <br><b> Applications / <br> / <br></b> Contact between PCB's ground and housing / <br> / <br> Low impedance RF connection between PCBs and/or PCB and metal case / <br> / <br> / </b><br><a href="<br><a href="http://katalog.we-online.de/media/images/eisos/AbsSESF_pf2.jpg" title="Enlarge picture"> / <img src="http://katalog.we-online.de/media/images/eisos/AbsSESF_pf2.jpg" width="320"></a><p> / Details see: <a href="http://katalog.we-online.de/en/pbs/WE-SECF?">http://katalog.we-online.de/en/pbs/WE-SECF?</a><p> / </b> / </b>Updated  by  Dan Xu 2014-07-15<br> / </b>2014 (C) Wurth Elektronik
MANUFACTURER: Würth Elektronik eiSos GmbH; CREATED-BY: Christin Otto; COMPANY-URL: http://www.we-online.de; CREATED-DATE: MAR 2013; DATASHEET-URL: http://katalog.we-online.de/pbs/datasheet/331031271520.pdf
footprint WE-SECF_0320
pins: 1 P$1 (power)

## WE-SECF-0453
designator L?, comment <b> SMD EMI Contact Finger / <br> / <br> / <br><b> Characteristics / <br> / <br></b></b> Material: Copper Beryllium (CuBe) gold-plated (AU) / <br> / <br> Corrosion resistant / <br> / <br> Wear resistant / <br> / <br> High temperatures and mechanical weight have no influence on the excellent connection properties / <br> / <br> Reliable solderability / <br> / <br> Tape & reel packaging / <br> / <br> Perfectly suited for automated placement / <br> / <br> Different types and sizes available / <br> / <br> / <br><b> Applications / <br> / <br></b> Contact between PCB's ground and housing / <br> / <br> Low impedance RF connection between PCBs and/or PCB and metal case / <br> / <br> / </b><br><a href="<br><a href="http://katalog.we-online.de/media/images/eisos/AbsSESF_pf2.jpg" title="Enlarge picture"> / <img src="http://katalog.we-online.de/media/images/eisos/AbsSESF_pf2.jpg" width="320"></a><p> / Details see: <a href="http://katalog.we-online.de/en/pbs/WE-SECF?">http://katalog.we-online.de/en/pbs/WE-SECF?</a><p> / </b> / </b>Updated  by  Dan Xu 2014-07-15<br> / </b>2014 (C) Wurth Elektronik
MANUFACTURER: Würth Elektronik eiSos GmbH; CREATED-BY: Christin Otto; COMPANY-URL: http://www.we-online.de; CREATED-DATE: MAR 2013; DATASHEET-URL: http://katalog.we-online.de/pbs/datasheet/331041402053.pdf
footprint WE-SECF_0453
pins: 1 P$1 (power)

## WE-SECF-0557
designator L?, comment <b> SMD EMI Contact Finger / <br> / <br> / <br><b> Characteristics / <br> / <br></b></b> Material: Copper Beryllium (CuBe) gold-plated (AU) / <br> / <br> Corrosion resistant / <br> / <br> Wear resistant / <br> / <br> High temperatures and mechanical weight have no influence on the excellent connection properties / <br> / <br> Reliable solderability / <br> / <br> Tape & reel packaging / <br> / <br> Perfectly suited for automated placement / <br> / <br> Different types and sizes available / <br> / <br> / <br><b> Applications / <br> / <br></b> Contact between PCB's ground and housing / <br> / <br> Low impedance RF connection between PCBs and/or PCB and metal case / <br> / <br> / </b><br><a href="<br><a href="http://katalog.we-online.de/media/images/eisos/AbsSESF_pf2.jpg" title="Enlarge picture"> / <img src="http://katalog.we-online.de/media/images/eisos/AbsSESF_pf2.jpg" width="320"></a><p> / Details see: <a href="http://katalog.we-online.de/en/pbs/WE-SECF?">http://katalog.we-online.de/en/pbs/WE-SECF?</a><p> / </b> / </b>Updated  by  Dan Xu 2014-07-15<br> / </b>2014 (C) Wurth Elektronik
MANUFACTURER: Würth Elektronik eiSos GmbH; CREATED-BY: Christin Otto; COMPANY-URL: http://www.we-online.de; CREATED-DATE: MAR 2013; DATASHEET-URL: http://katalog.we-online.de/pbs/datasheet/331051472057.pdf
footprint WE-SECF-0557
pins: 1 P$1 (power)

## WE-SECF-0610
designator L?, comment <b> SMD EMI Contact Finger / <br> / <br> / <br><b> Characteristics / <br> / <br></b></b> Material: Copper Beryllium (CuBe) gold-plated (AU) / <br> / <br> Corrosion resistant / <br> / <br> Wear resistant / <br> / <br> High temperatures and mechanical weight have no influence on the excellent connection properties / <br> / <br> Reliable solderability / <br> / <br> Tape & reel packaging / <br> / <br> Perfectly suited for automated placement / <br> / <br> Different types and sizes available / <br> / <br> / <br><b> Applications / <br> / <br></b> Contact between PCB's ground and housing / <br> / <br> Low impedance RF connection between PCBs and/or PCB and metal case / <br> / <br> / </b><br><a href="<br><a href="http://katalog.we-online.de/media/images/eisos/AbsSESF_pf2.jpg" title="Enlarge picture"> / <img src="http://katalog.we-online.de/media/images/eisos/AbsSESF_pf2.jpg" width="320"></a><p> / Details see: <a href="http://katalog.we-online.de/en/pbs/WE-SECF?">http://katalog.we-online.de/en/pbs/WE-SECF?</a><p> / </b> / </b>Updated  by  Dan Xu 2014-07-15<br> / </b>2014 (C) Wurth Elektronik
MANUFACTURER: Würth Elektronik eiSos GmbH; CREATED-BY: Christin Otto; COMPANY-URL: http://www.we-online.de; CREATED-DATE: MAR 2013; DATASHEET-URL: http://katalog.we-online.de/pbs/datasheet/331061603010.pdf
footprint WE-SECF_0610
pins: 1 P$1 (power)

## WE-SECF-0825
designator L?, comment <b> SMD EMI Contact Finger / <br> / <br> / <br><b> Characteristics / <br> / <br></b></b> Material: Copper Beryllium (CuBe) gold-plated (AU) / <br> / <br> Corrosion resistant / <br> / <br> Wear resistant / <br> / <br> High temperatures and mechanical weight have no influence on the excellent connection properties / <br> / <br> Reliable solderability / <br> / <br> Tape & reel packaging / <br> / <br> Perfectly suited for automated placement / <br> / <br> Different types and sizes available / <br> / <br> / <br><b> Applications / <br> / <br></b> Contact between PCB's ground and housing / <br> / <br> Low impedance RF connection between PCBs and/or PCB and metal case / <br> / <br> / </b><br><a href="<br><a href="http://katalog.we-online.de/media/images/eisos/AbsSESF_pf2.jpg" title="Enlarge picture"> / <img src="http://katalog.we-online.de/media/images/eisos/AbsSESF_pf2.jpg" width="320"></a><p> / Details see: <a href="http://katalog.we-online.de/en/pbs/WE-SECF?">http://katalog.we-online.de/en/pbs/WE-SECF?</a><p> / </b> / </b>Updated  by  Dan Xu 2014-07-15<br> / </b>2014 (C) Wurth Elektronik
MANUFACTURER: Würth Elektronik eiSos GmbH; CREATED-BY: Christin Otto; COMPANY-URL: http://www.we-online.de; CREATED-DATE: MAR 2013; DATASHEET-URL: http://katalog.we-online.de/pbs/datasheet/331081302025.pdf
footprint WE-SECF_0825
pins: 1 P$1 (power)

## WE-SECF-1440
designator L?, comment <b> SMD EMI Contact Finger / <br> / <br> / <br><b> Characteristics / <br> / <br></b></b> Material: Copper Beryllium (CuBe) gold-plated (AU) / <br> / <br> Corrosion resistant / <br> / <br> Wear resistant / <br> / <br> High temperatures and mechanical weight have no influence on the excellent connection properties / <br> / <br> Reliable solderability / <br> / <br> Tape & reel packaging / <br> / <br> Perfectly suited for automated placement / <br> / <br> Different types and sizes available / <br> / <br> / <br><b> Applications / <br> / <br></b> Contact between PCB's ground and housing / <br> / <br> Low impedance RF connection between PCBs and/or PCB and metal case / <br> / <br> / </b><br><a href="<br><a href="http://katalog.we-online.de/media/images/eisos/AbsSESF_pf2.jpg" title="Enlarge picture"> / <img src="http://katalog.we-online.de/media/images/eisos/AbsSESF_pf2.jpg" width="320"></a><p> / Details see: <a href="http://katalog.we-online.de/en/pbs/WE-SECF?">http://katalog.we-online.de/en/pbs/WE-SECF?</a><p> / </b> / </b>Updated  by  Dan Xu 2014-07-15<br> / </b>2014 (C) Wurth Elektronik
MANUFACTURER: Würth Elektronik eiSos GmbH; CREATED-BY: Christin Otto; COMPANY-URL: http://www.we-online.de; CREATED-DATE: MAR 2013; DATASHEET-URL: http://katalog.we-online.de/pbs/datasheet/331141352540.pdf
footprint WE-SECF_1440
pins: 1 P$1 (power)

## WE-SECF-1562
designator L?, comment <b> SMD EMI Contact Finger / <br> / <br> / <br><b> Characteristics / <br> / <br></b></b> Material: Copper Beryllium (CuBe) gold-plated (AU) / <br> / <br> Corrosion resistant / <br> / <br> Wear resistant / <br> / <br> High temperatures and mechanical weight have no influence on the excellent connection properties / <br> / <br> Reliable solderability / <br> / <br> Tape & reel packaging / <br> / <br> Perfectly suited for automated placement / <br> / <br> Different types and sizes available / <br> / <br> / <br><b> Applications / <br> / <br></b> Contact between PCB's ground and housing / <br> / <br> Low impedance RF connection between PCBs and/or PCB and metal case / <br> / <br> / </b><br><a href="<br><a href="http://katalog.we-online.de/media/images/eisos/AbsSESF_pf2.jpg" title="Enlarge picture"> / <img src="http://katalog.we-online.de/media/images/eisos/AbsSESF_pf2.jpg" width="320"></a><p> / Details see: <a href="http://katalog.we-online.de/en/pbs/WE-SECF?">http://katalog.we-online.de/en/pbs/WE-SECF?</a><p> / </b> / </b>Updated  by  Dan Xu 2014-07-15<br> / </b>2014 (C) Wurth Elektronik
MANUFACTURER: Würth Elektronik eiSos GmbH; CREATED-BY: Christin Otto; COMPANY-URL: http://www.we-online.de; CREATED-DATE: MAR 2013; DATASHEET-URL: http://katalog.we-online.de/pbs/datasheet/331151702562.pdf
footprint WE-SECF-1562
pins: 1 P$1 (power)